# EAGLE library part LM2904NG (library On Semiconductor)
Operational Amplifiers
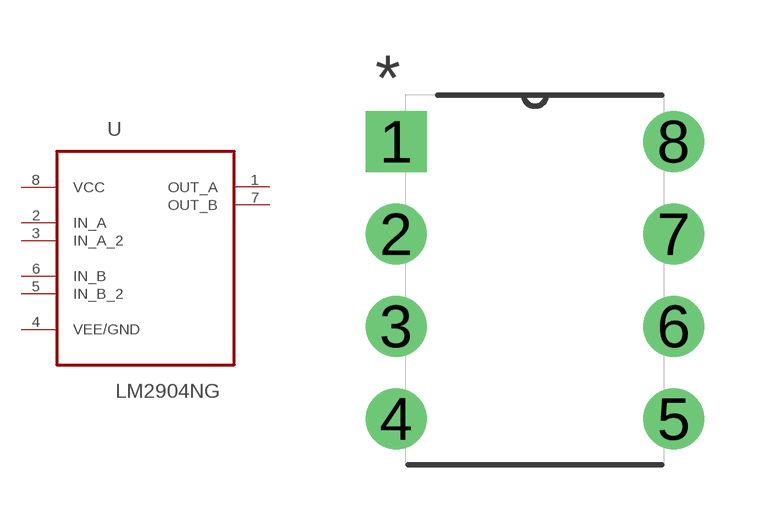
[diagram p43: symbol with the pads of DIP254P762X533-8; footprint DIP254P762X533-8]

Designator prefix U

## LM2904NG (MPN: LM2904NG; OC_FARNELL: 1211131; OC_NEWARK: 45J0729; PACKAGE: PDIP; SUPPLIER: ON SEMICONDUCTOR)  [DIP254P762X533-8]
1  OUT_A  out
2  IN_A  in
3  IN_A_2  in
4  VEE/GND  pas
5  IN_B_2  in
6  IN_B  in
7  OUT_B  out
8  VCC  pwr

## Footprint DIP254P762X533-8 (pad centres in mm)
drill 1.118 square: 1 -7.62,7.62
drill 1.118: 2 -7.62,5.08; 3 -7.62,2.54; 4 -7.62,0; 5 0,0; 6 0,2.54; 7 0,5.08; 8 0,7.62